# Altium integrated library 1734366-1.IntLib: 1 symbol
Pins are listed as number, name and electrical type; pins without a type are passive.

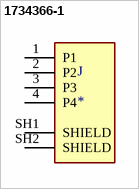
[diagram p0: symbol 1734366-1]

## 1734366-1
designator J
USB-A _USB TYPE-A_ USB 2.0 Receptacle Connector 4 Position Through Hole; MP: 1734366-1; Centerline_Pitch: 2 mm[.078 in]; MF: TE Connectivity; Number_of_Positions: 4; Availability: Unavailable; SnapEDA_Link: https://www.snapeda.com/parts/1734366-1/TE%20Connectivity%20AMP%20Connectors/view-part/53165/?ref=snap; Price: None; Product_Type: Connector; TE_purchase_URL: https://www.te.com/usa-en/product-1734366-1.html?te_bu=Cor&te_type=disp&te_campaign=seda_glo_cor-seda-global-disp-prtnr-fy19-seda-model-bom-cta_sma-317_1&elqCampaignId=32493; EU_RoHS_Compliance: Compliant; Package: None; Value: *
footprint TE_1734366-1
pins: 1 P1, 2 P2, 3 P3, 4 P4, SH1 SHIELD, SH2 SHIELD